# Altium schematic symbol library Conn,Fuse Holder,Blade,30A Max.Schlib: 1 symbol
Pins are listed as number, name and electrical type; pins without a type are passive.

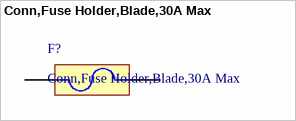
[diagram p0: symbol Conn,Fuse Holder,Blade,30A Max]

## Conn,Fuse Holder,Blade,30A Max
designator F?
Fuse Holder 30A 500V 1 Circuit Blade Through Hole
pins: 1, 2